# Altium footprint library MCP2551-E_P (1).PcbLib: 1 footprints
Each footprint in its own frame and in the unit in brackets; x right, y up, seen from the top. Pads: shape width x height; smd on the part's side, far side on the other; paste and mask are expansions set on the pad; w line width, h text height; cw(c..) or ccw(c..) is an arc to the next point about the centre after c.
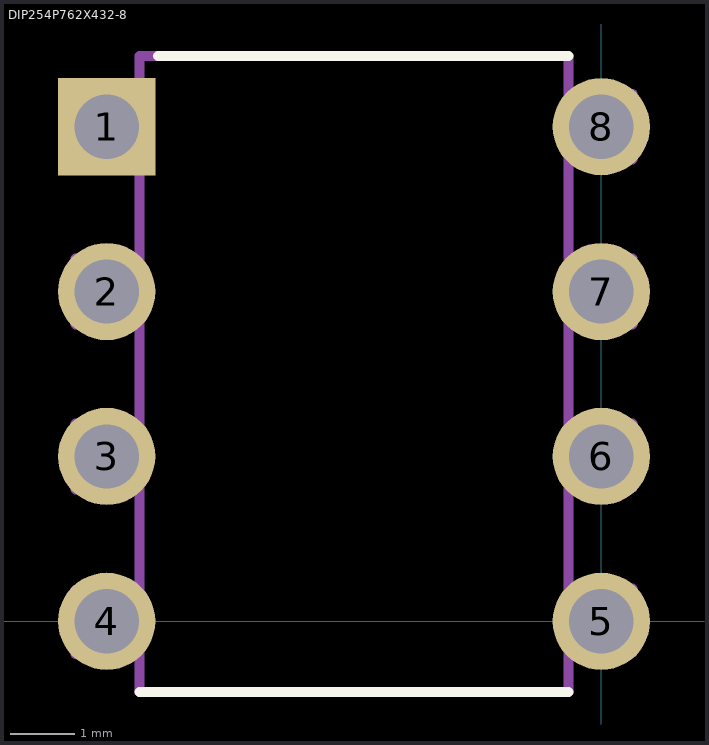
[diagram p0: the footprint, top view; thin cyan lines are the x and y axes]

## DIP254P762X432-8 [mil]
pads (8):
  rect 59x59 hole 39: 1(-300,300)
  round 59 hole 39: 2(-300,200) 3(-300,100) 4(-300,0) 5(0,0) 6(0,100) 7(0,200) 8(0,300)
Top Overlay:
  lines w6: -280,-43 -20,-43 ; -269,343 -20,343
Mechanical 1:
  lines w6: -319,-20 -319,19 -280,20 -280,-20 -319,-20 ; -319,80 -319,120 -280,120 -280,80 -319,80 ; -319,180 -319,220 -280,220 -280,180 -319,180 ; -319,280 -319,320 -280,320 -280,280 -319,280 ; -280,-43 -20,-43 -20,343 -280,343 -280,-43 ; -20,-20 -20,20 19,20 19,-19 -20,-20 ; -20,80 -20,120 19,120 19,81 -20,80 ; -20,180 -20,220 19,220 19,180 -20,180 ; -20,280 -20,320 19,320 19,280 -20,280